# EAGLE library part TSC2046 (library dslparts)
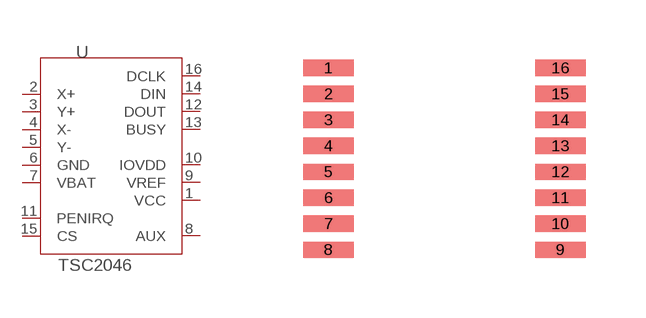
[diagram p9: symbol with the pads of TSSOP16; footprint TSSOP16]

Designator prefix -

## TSC2046  [TSSOP16]
1  VCC
2  X+
3  Y+
4  X-
5  Y-
6  GND
7  VBAT
8  AUX
9  VREF
10  IOVDD
11  PENIRQ
12  DOUT
13  BUSY
14  DIN
15  CS
16  DCLK

## Footprint TSSOP16 (pad centres in mm)
smd 1.27 x 0.406: 1 -2.9,2.31; 2 -2.9,1.66; 3 -2.9,1.01; 4 -2.9,0.36; 5 -2.9,-0.29; 6 -2.9,-0.94; 7 -2.9,-1.59; 8 -2.9,-2.24; 9 2.9,-2.24; 10 2.9,-1.59; 11 2.9,-0.94; 12 2.9,-0.29; 13 2.9,0.36; 14 2.9,1.01; 15 2.9,1.66; 16 2.9,2.31